# EAGLE library part LSM_IMU (library custom_amish)
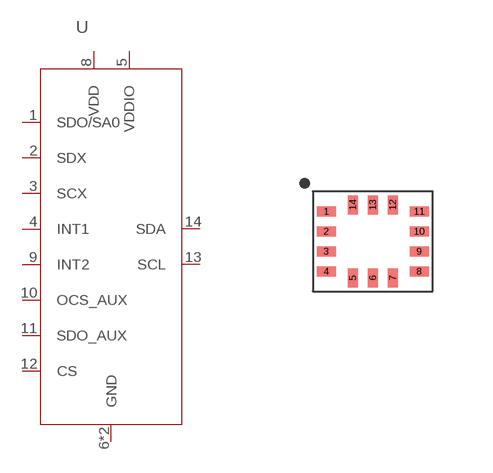
[diagram p0: symbol with the pads of IMU_LSM6DS0X; footprint IMU_LSM6DS0X]

Designator prefix U

## LSM_IMU-LGA-14L-6AXIS (CREATOR: B HO; DIST: Digikey; DISTPN: 497-18367-1-ND)  [IMU_LSM6DS0X]
1  SDO/SA0
2  SDX
3  SCX
4  INT1
5  VDDIO
6  GND
7  GND
8  VDD
9  INT2
10  OCS_AUX
11  SDO_AUX
12  CS
13  SCL
14  SDA

## Footprint IMU_LSM6DS0X (pad centres in mm)
smd 0.475 x 0.25: 1 -1.163,0.75; 2 -1.163,0.25; 3 -1.163,-0.25; 4 -1.163,-0.75; 8 1.163,-0.75; 9 1.163,-0.25; 10 1.163,0.25; 11 1.163,0.75
smd 0.25 x 0.475: 5 -0.5,-0.912; 6 0,-0.912; 7 0.5,-0.912; 12 0.5,0.912; 13 0,0.912; 14 -0.5,0.912